# EAGLE library part HS8836 (library HS8836)
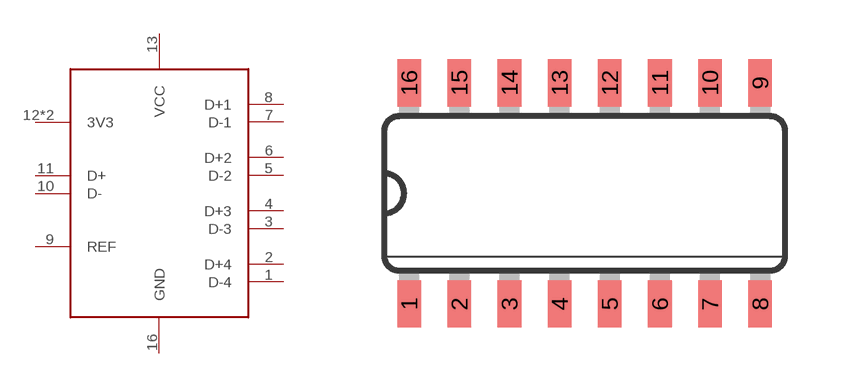
[diagram p0: symbol with the pads of SO16; footprint SO16]

Designator prefix -

## HS8836  [SO16]
1  D-4  out
2  D+4  out
3  D-3  out
4  D+3  out
5  D-2  out
6  D+2  out
7  D-1  out
8  D+1  out
9  REF
10  D-  in
11  D+  in
12  3V3
13  VCC  pwr
14  3V3
16  GND  pwr

## Footprint SO16 (pad centres in mm)
Small Outline package 150 mil
smd 0.6 x 1.2: 1 -4.445,-2.8; 2 -3.175,-2.8; 3 -1.905,-2.8; 4 -0.635,-2.8; 5 0.635,-2.8; 6 1.905,-2.8; 7 3.175,-2.8; 8 4.445,-2.8; 9 4.445,2.8; 10 3.175,2.8; 11 1.905,2.8; 12 0.635,2.8; 13 -0.635,2.8; 14 -1.905,2.8; 15 -3.175,2.8; 16 -4.445,2.8